# Altium schematic symbol library BB-HEADER-DUAL-P01-P28.SchLib: 1 symbol
Pins are listed as number, name and electrical type; pins without a type are passive.

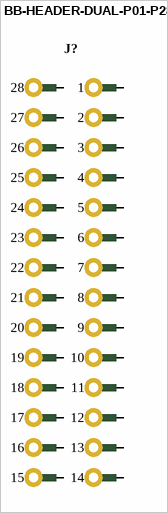
[diagram p0: symbol BB-HEADER-DUAL-P01-P28]

## BB-HEADER-DUAL-P01-P28
designator J?  (value not drawn)
Dual Row BB Header, Vertical, Male, 0.1"2.54mm,P01-P28
pins: 1, 2, 3, 4, 5, 6, 7, 8, 9, 10, 11, 12, 13, 14, 15, 16, 17, 18, 19, 20, 21, 22, 23, 24, 25, 26, 27, 28